# EAGLE library part NE5532 (library NE5532)
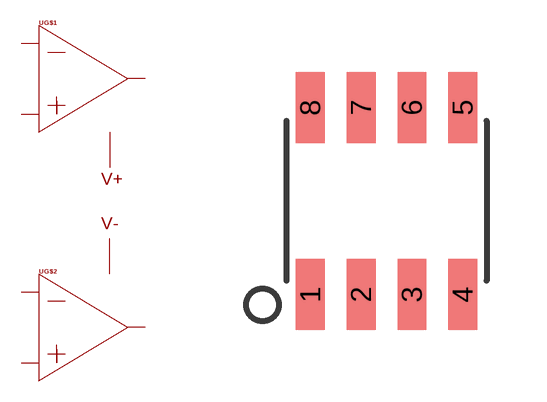
[diagram p0: symbol with the pads of SOIC8; footprint SOIC8]

Designator prefix U; gates G$1=OPAMP G$2=OPAMP G$3=POWERPINS

## NE5532  [SOIC8]
1  G$1:OUT  in
2  G$1:IN-
3  G$1:IN+  in
4  G$3:V-  pwr
5  G$2:IN+  in
6  G$2:IN-
7  G$2:OUT  in
8  G$3:V+  pwr

## Footprint SOIC8 (pad centres in mm)
smd 0.72 x 1.78: 1 -1.905,-2.34; 2 -0.635,-2.34; 3 0.635,-2.34; 4 1.905,-2.34; 5 1.905,2.34; 6 0.635,2.34; 7 -0.635,2.34; 8 -1.905,2.34